# EAGLE library part 62100821821 (library Wurth_Elektronik_Electromechanic_Board_to_Board_Connectors_rev16a)
WR-PHD 2.00mm Dual SMT Socket Header Low Profile, 8 Pins=>Code : Con_BTB_SHD_2.00_2_62100821821 <http://katalog.we-online.de/media/thumbs2/eican/thb_Con_BTB_SHD_2.00_2_6210xx21821_pf2.jpg> Details see: http://katalog.we-online.de/en/em/621_0xx_218_21 Created 2014-06-03, Karrer Zheng 2014 (C) Würth Elektronik
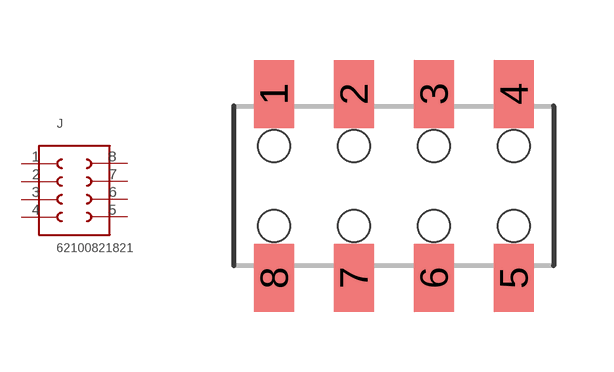
[diagram p276: symbol with the pads of 62100821821; footprint 62100821821]

Designator prefix J

## 62100821821  [62100821821]
1  1  pas
2  2  pas
3  3  pas
4  4  pas
5  5  pas
6  6  pas
7  7  pas
8  8  pas

## Footprint 62100821821 (pad centres in mm)
WR-PHD 2.00mm Dual SMT Socket Header Low Profile, 8 Pins
smd 1 x 1.7: 1 -3,2.3; 2 -1,2.3; 3 1,2.3; 4 3,2.3; 5 3,-2.3; 6 1,-2.3; 7 -1,-2.3; 8 -3,-2.3
hole 0.8 at -1,1
hole 0.8 at -3,1
hole 0.8 at -3,-1
hole 0.8 at -1,-1
hole 0.8 at 1,1
hole 0.8 at 1,-1
hole 0.8 at 3,1
hole 0.8 at 3,-1